# Altium schematic symbol library Relay.SCHLIB: 11 symbols
Pins are listed as number, name and electrical type; pins without a type are passive.

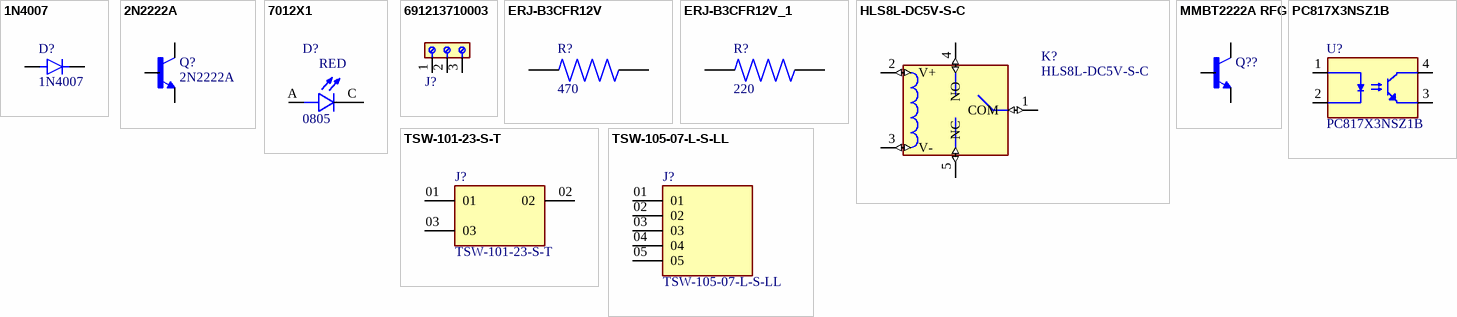
[diagram p0: symbols 1N4007 to TSW-105-07-L-S-LL]

## 1N4007
designator D?
Diode, DO-41, 1000V, 1A, 175Â°C; MF: Diotec Semiconductor; SnapEDA_Link: https://www.snapeda.com/parts/1N4007/Diotec/view-part/?ref=snap; Package: DO-41 Diotec; Value: *; MP: 1N4007; Check_prices: https://www.snapeda.com/parts/1N4007/Diotec/view-part/?ref=eda
footprint 1N4007
pins: A, C

## 2N2222A
designator Q?
BJT, TO-92, 40V, 600mA, NPN, 0.625W, 150Â°C; MF: Diotec Semiconductor; SnapEDA_Link: https://www.snapeda.com/parts/2N2222A/Diotec/view-part/?ref=snap; Package: TO-92 Diotec; Value: *; MP: 2N2222A; Check_prices: https://www.snapeda.com/parts/2N2222A/Diotec/view-part/?ref=eda
footprint TO92254P470H750-3
footprint TO92254P470H750-3
pins: 1 E, 2 B, 3 C

## 7012X1
designator D?, comment 0805
Red - LED Indication - Discrete 1.7V 0805 (2012 Metric); MF: VCC; MP: 7012X1; SnapEDA_Link: https://www.snapeda.com/parts/7012X1/VCC/view-part/?ref=snap; Package: 0805 Visual Communications; Value: *; Check_prices: https://www.snapeda.com/parts/7012X1/VCC/view-part/?ref=eda
footprint LED_7012X1
pins: A, C
text: RED

## 691213710003
designator J?  (value not drawn)
Serie 213 - 5,0mm pitch - Modular THT - Green - Horizontal cable entry Rising Cage Clamp 10mm height - 03p; MF: Wurth Electronics; SnapEDA_Link: https://www.snapeda.com/parts/691213710003/Wurth+Electronics/view-part/?ref=snap; Package: None; Value: *; MP: 691213710003; Check_prices: https://www.snapeda.com/parts/691213710003/Wurth+Electronics/view-part/?ref=eda
footprint 691213710003
pins: 1, 2, 3

## ERJ-B3CFR12V
designator R?, comment 470
MP: ERJB3CFR12V; Package: None; Price: None; Availability: Unavailable; Value: *
footprint RES_ERJB3CFR12V
pins: 1, 2

## ERJ-B3CFR12V_1
designator R?, comment 220
MP: ERJB3CFR12V; Package: None; Price: None; Availability: Unavailable; Value: *
footprint RES_ERJB3CFR12V
pins: 1, 2

## HLS8L-DC5V-S-C
designator K?
DIP Power Relay 5V-7A;; MF: Helishun; SnapEDA_Link: https://www.snapeda.com/parts/HLS8L-DC5V-S-C/Helishun/view-part/?ref=snap; Package: None; Value: *; MP: HLS8L-DC5V-S-C; Check_prices: https://www.snapeda.com/parts/HLS8L-DC5V-S-C/Helishun/view-part/?ref=eda
footprint REY5-19.0X15.0X15.0MM
pins: 1 COM (io), 2 V+ (io), 3 V- (io), 4 NO (io), 5 NC (io)

## MMBT2222A RFG
designator Q??  (value not drawn)
SOT-23, 75V, 0.6A, NPN Transistor; MF: Taiwan Semiconductor; SnapEDA_Link: https://www.snapeda.com/parts/MMBT2222A%20RFG/taiwan/view-part/?ref=snap; Package: SOT-23 Taiwan Semiconductor; Value: *; MP: MMBT2222A RFG; Check_prices: https://www.snapeda.com/parts/MMBT2222A%20RFG/taiwan/view-part/?ref=eda
footprint SOT95P237X112-3N
pins: 1 B, 2 E, 3 C

## PC817X3NSZ1B
designator U?
Optoisolator Transistor Output - 1 Channel 4-DIP; MF: Sharp Microelectronics; SnapEDA_Link: https://www.snapeda.com/parts/PC817X3NSZ1B/Sharp/view-part/?ref=snap; Package: DIP-4 Sharp Microelectronics; Value: *; MP: PC817X3NSZ1B; Check_prices: https://www.snapeda.com/parts/PC817X3NSZ1B/Sharp/view-part/?ref=eda
footprint DIP762W50P254L495H455Q4
pins: 1 ANODE, 2 CATHODE, 3 EMITTER, 4 COLLECTOR

## TSW-101-23-S-T
designator J?
Package: None; Price: None; Value: *; MP: TSW-101-23-S-T; Availability: Unavailable
footprint SAMTEC_TSW-101-23-S-T
pins: 01, 02, 03

## TSW-105-07-L-S-LL
designator J?
Package: None; Price: None; Value: *; MP: TSW-105-07-L-S-LL; Availability: Unavailable
footprint SAMTEC_TSW-105-07-L-S-LL
pins: 01, 02, 03, 04, 05